# Altium integrated library Diode_schottky_sot23_BAT54C.IntLib: 1 symbol
Pins are listed as number, name and electrical type; pins without a type are passive.

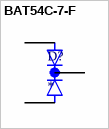
[diagram p0: symbol BAT54C-7-F]

## BAT54C-7-F
designator D?
Schottky Diode 2x ComCath 0.2A 30V SOT23 | Diodes Inc BAT54C-7-F; MF: Diodes Inc.; SnapEDA_Link: https://www.snapeda.com/parts/BAT54C-7-F/Diodes+Inc./view-part/?ref=snap; Package: SOT-23 Diodes Inc.; Value: *; MP: BAT54C-7-F; Check_prices: https://www.snapeda.com/parts/BAT54C-7-F/Diodes+Inc./view-part/?ref=eda
footprint SOT91P240X115-3N
pins: 1 A1, 2 A2, 3 C